# Altium footprint library MyLibrary.PcbLib: 365 footprints (part 7 of 23)
Each footprint in its own frame and in the unit in brackets; x right, y up, seen from the top. Pads: shape width x height; smd on the part's side, far side on the other; paste and mask are expansions set on the pad; w line width, h text height; cw(c..) or ccw(c..) is an arc to the next point about the centre after c.
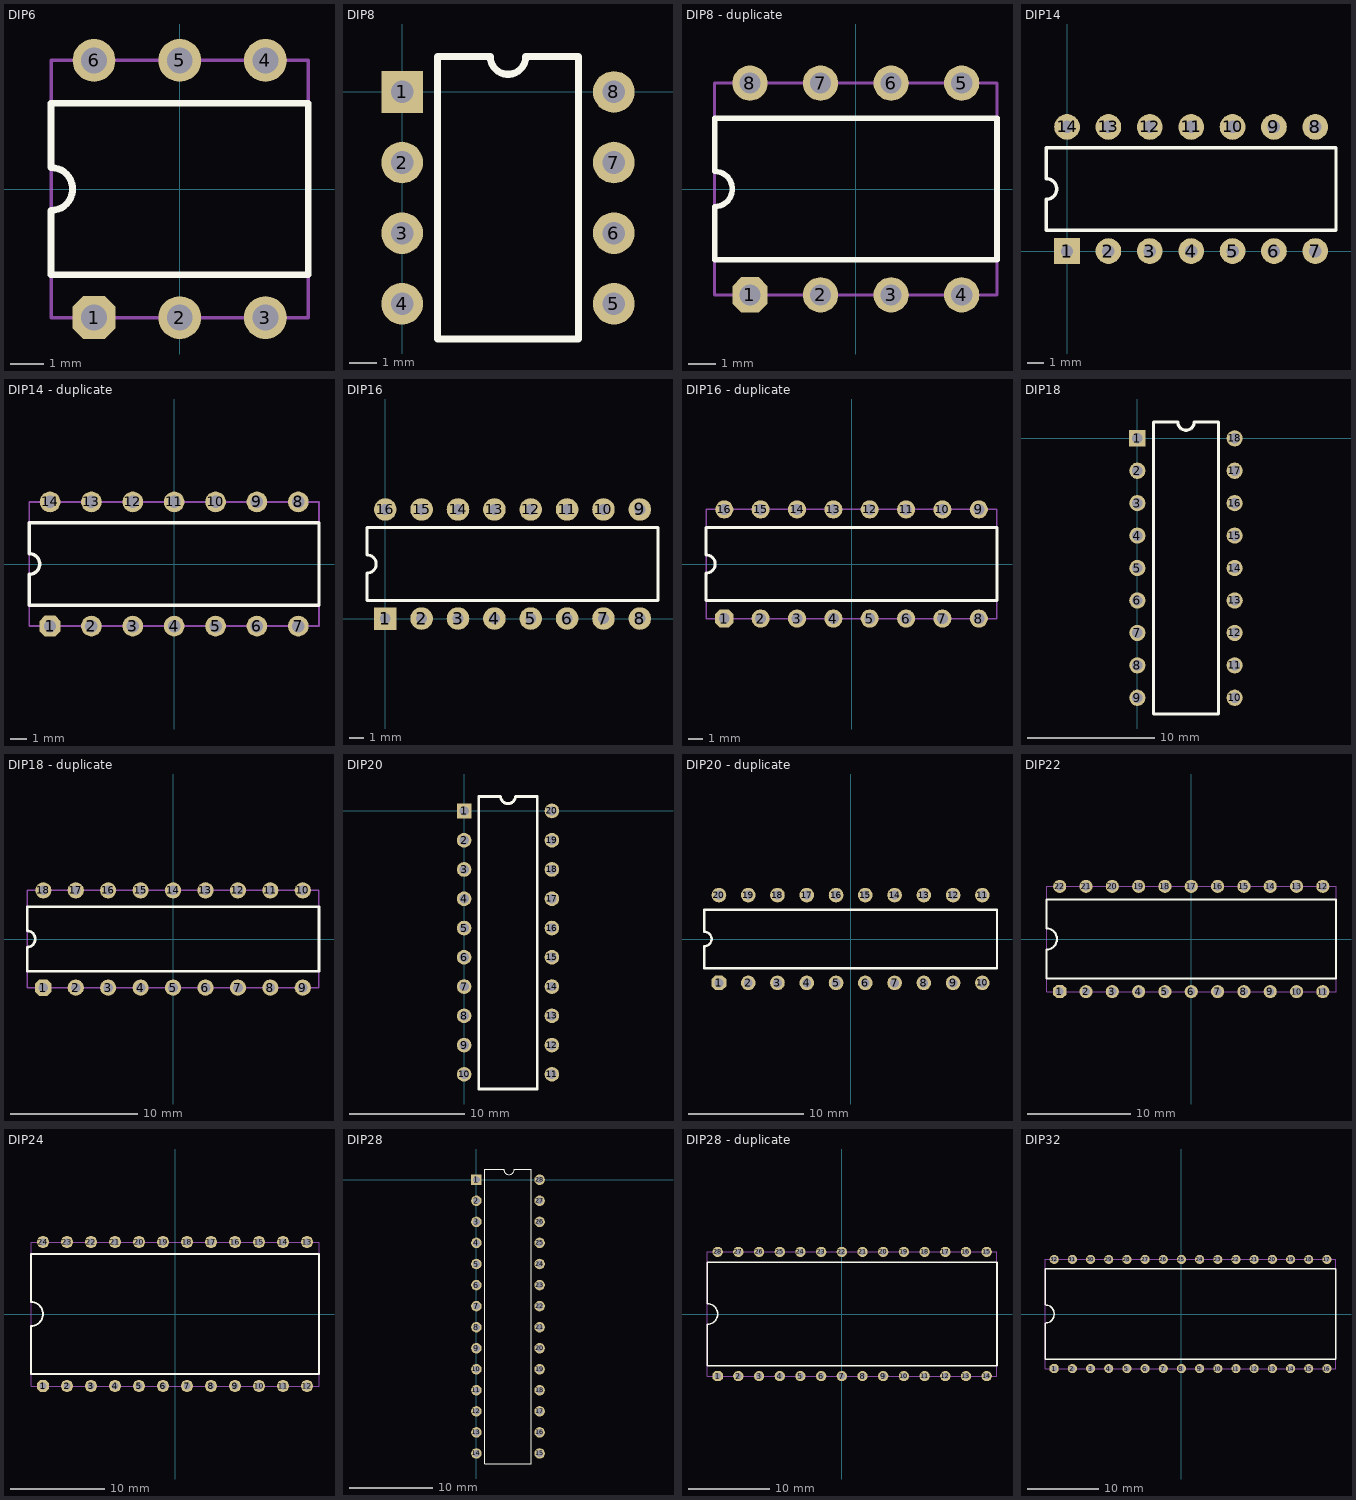
[diagram p6: the footprints below, top view; thin cyan lines are the x and y axes]

## DIP6 [mil]
pads (6):
  oct 50x50 hole 30: 1(-100,-150)
  round 50 hole 30: 2(0,-150) 3(100,-150) 4(100,150) 5(0,150) 6(-100,150)
Top Overlay:
  lines w8: -150,-100 150,-100 150,100 -150,100 -150,25 cw(c-150,0) -150,-25 -150,-100
Mechanical 1:
  lines w4: -150,-150 -150,150 150,150 150,-150 -150,-150

## DIP8 [mm]
pads (8):
  rect 1.5x1.5 hole 0.813: 1(0,0)
  round 1.5 hole 0.813: 2(0,-2.54) 3(0,-5.08) 4(0,-7.62) 5(7.62,-7.62) 6(7.62,-5.08) 7(7.62,-2.54) 8(7.62,0)
Top Overlay:
  lines w0.254: 1.27,-8.89 1.27,1.27 3.175,1.27 ccw(c3.81,1.27) 4.445,1.27 6.35,1.27 6.35,-8.89 1.27,-8.89

## DIP8 - duplicate [mil]
pads (8):
  oct 50x50 hole 30: 1(-150,-150)
  round 50 hole 30: 2(-50,-150) 3(50,-150) 4(150,-150) 5(150,150) 6(50,150) 7(-50,150) 8(-150,150)
Top Overlay:
  lines w8: -200,-100 -200,-25 ccw(c-200,0) -200,25 -200,100 200,100 200,-100 -200,-100
Mechanical 1:
  lines w4: -200,-150 -200,150 200,150 200,-150 -200,-150

## DIP14 [mil]
pads (14):
  rect 62x62 hole 30: 1(0,0)
  round 62 hole 30: 2(100,0) 3(200,0) 4(300,0) 5(400,0) 6(500,0) 7(600,0) 8(600,300) 9(500,300) 10(400,300) 11(300,300) 12(200,300) 13(100,300) 14(0,300)
Top Overlay:
  lines w8: -50,50 650,50 650,250 -50,250 -50,175 cw(c-50,150) -50,125 -50,50

## DIP14 - duplicate [mil]
pads (14):
  oct 50x50 hole 30: 1(-300,-150)
  round 50 hole 30: 2(-200,-150) 3(-100,-150) 4(0,-150) 5(100,-150) 6(200,-150) 7(300,-150) 8(300,150) 9(200,150) 10(100,150) 11(0,150) 12(-100,150) 13(-200,150) 14(-300,150)
Top Overlay:
  lines w8: -350,-100 350,-100 350,100 -350,100 -350,25 cw(c-350,0) -350,-25 -350,-100
Mechanical 1:
  lines w4: -350,-150 -350,150 350,150 350,-150 -350,-150

## DIP16 [mil]
pads (16):
  rect 62x62 hole 30: 1(0,0)
  round 62 hole 30: 2(100,0) 3(200,0) 4(300,0) 5(400,0) 6(500,0) 7(600,0) 8(700,0) 9(700,300) 10(600,300) 11(500,300) 12(400,300) 13(300,300) 14(200,300) 15(100,300) 16(0,300)
Top Overlay:
  lines w8: -50,50 750,50 750,250 -50,250 -50,175 cw(c-50,150) -50,125 -50,50

## DIP16 - duplicate [mil]
pads (16):
  oct 50x50 hole 30: 1(-350,-150)
  round 50 hole 30: 2(-250,-150) 3(-150,-150) 4(-50,-150) 5(50,-150) 6(150,-150) 7(250,-150) 8(350,-150) 9(350,150) 10(250,150) 11(150,150) 12(50,150) 13(-50,150) 14(-150,150) 15(-250,150) 16(-350,150)
Top Overlay:
  lines w8: -400,-100 400,-100 400,100 -400,100 -400,25 cw(c-400,0) -400,-25 -400,-100
Mechanical 1:
  lines w4: -400,-150 400,-150 400,150 -400,150 -400,-150

## DIP18 [mil]
pads (18):
  rect 50x50 hole 32: 1(0,0)
  round 50 hole 32: 2(0,-100) 3(0,-200) 4(0,-300) 5(0,-400) 6(0,-500) 7(0,-600) 8(0,-700) 9(0,-800) 10(300,-800) 11(300,-700) 12(300,-600) 13(300,-500) 14(300,-400) 15(300,-300) 16(300,-200) 17(300,-100) 18(300,0)
Top Overlay:
  lines w10: 50,-850 50,50 125,50 ccw(c150,50) 175,50 250,50 250,-850 50,-850

## DIP18 - duplicate [mil]
pads (18):
  oct 50x50 hole 30: 1(-400,-150)
  round 50 hole 30: 2(-300,-150) 3(-200,-150) 4(-100,-150) 5(0,-150) 6(100,-150) 7(200,-150) 8(300,-150) 9(400,-150) 10(400,150) 11(300,150) 12(200,150) 13(100,150) 14(0,150) 15(-100,150) 16(-200,150) 17(-300,150) 18(-400,150)
Top Overlay:
  lines w8: -450,-100 450,-100 450,100 -450,100 -450,25 cw(c-450,0) -450,-25 -450,-100
Mechanical 1:
  lines w4: -450,-150 -450,150 450,150 450,-150 -450,-150

## DIP20 [mil]
pads (20):
  rect 50x50 hole 32: 1(0,0)
  round 50 hole 32: 2(0,-100) 3(0,-200) 4(0,-300) 5(0,-400) 6(0,-500) 7(0,-600) 8(0,-700) 9(0,-800) 10(0,-900) 11(300,-900) 12(300,-800) 13(300,-700) 14(300,-600) 15(300,-500) 16(300,-400) 17(300,-300) 18(300,-200) 19(300,-100) 20(300,0)
Top Overlay:
  lines w10: 50,-950 250,-950 250,50 175,50 cw(c150,50) 125,50 50,50 50,-950

## DIP20 - duplicate [mil]
pads (20):
  oct 50x50 hole 30: 1(-450,-150)
  round 50 hole 30: 2(-350,-150) 3(-250,-150) 4(-150,-150) 5(-50,-150) 6(50,-150) 7(150,-150) 8(250,-150) 9(350,-150) 10(450,-150) 11(450,150) 12(350,150) 13(250,150) 14(150,150) 15(50,150) 16(-50,150) 17(-150,150) 18(-250,150) 19(-350,150) 20(-450,150)
Top Overlay:
  lines w8: -500,-100 500,-100 500,100 -500,100 -500,25 cw(c-500,0) -500,-25 -500,-100

## DIP22 [mil]
pads (22):
  oct 50x50 hole 30: 1(-500,-200)
  round 50 hole 30: 2(-400,-200) 3(-300,-200) 4(-200,-200) 5(-100,-200) 6(0,-200) 7(100,-200) 8(200,-200) 9(300,-200) 10(400,-200) 11(500,-200) 12(500,200) 13(400,200) 14(300,200) 15(200,200) 16(100,200) 17(0,200) 18(-100,200) 19(-200,200) 20(-300,200) 21(-400,200) 22(-500,200)
Top Overlay:
  lines w8: -550,-150 550,-150 550,150 -550,150 -550,40 cw(c-550,0) -550,-40 -550,-150
Mechanical 1:
  lines w4: -550,-200 550,-200 550,200 -550,200 -550,-200

## DIP24 [mil]
pads (24):
  oct 50x50 hole 30: 1(-550,-300)
  round 50 hole 30: 2(-450,-300) 3(-350,-300) 4(-250,-300) 5(-150,-300) 6(-50,-300) 7(50,-300) 8(150,-300) 9(250,-300) 10(350,-300) 11(450,-300) 12(550,-300) 13(550,300) 14(450,300) 15(350,300) 16(250,300) 17(150,300) 18(50,300) 19(-50,300) 20(-150,300) 21(-250,300) 22(-350,300) 23(-450,300) 24(-550,300)
Top Overlay:
  lines w8: -600,-250 600,-250 600,250 -600,250 -600,50 cw(c-600,0) -600,-50 -600,-250
Mechanical 1:
  lines w4: -600,-300 600,-300 600,300 -600,300 -600,-300

## DIP28 [mil]
pads (28):
  rect 50x50 hole 32: 1(0,0)
  round 50 hole 32: 2(0,-100) 3(0,-200) 4(0,-300) 5(0,-400) 6(0,-500) 7(0,-600) 8(0,-700) 9(0,-800) 10(0,-900) 11(0,-1000) 12(0,-1100) 13(0,-1200) 14(0,-1300) 15(300,-1300) 16(300,-1200) 17(300,-1100) 18(300,-1000) 19(300,-900) 20(300,-800) 21(300,-700) 22(300,-600) 23(300,-500) 24(300,-400) 25(300,-300) 26(300,-200) 27(300,-100) 28(300,0)
Top Overlay:
  lines w4: 40,-1350 40,50 130,50 ccw(c155,50) 180,50 260,50 260,-1350 40,-1350

## DIP28 - duplicate [mil]
pads (28):
  oct 50x50 hole 30: 1(-600,-300)
  round 50 hole 30: 2(-500,-300) 3(-400,-300) 4(-300,-300) 5(-200,-300) 6(-100,-300) 7(0,-300) 8(100,-300) 9(200,-300) 10(300,-300) 11(400,-300) 12(500,-300) 13(600,-300) 14(700,-300) 15(700,300) 16(600,300) 17(500,300) 18(400,300) 19(300,300) 20(200,300) 21(100,300) 22(0,300) 23(-100,300) 24(-200,300) 25(-300,300) 26(-400,300) 27(-500,300) 28(-600,300)
Top Overlay:
  lines w8: -650,-250 -650,-50 ccw(c-650,0) -650,50 -650,250 750,250 750,-250 -650,-250
Mechanical 1:
  lines w4: -650,-300 -650,300 750,300 750,-300 -650,-300

## DIP32 [mil]
pads (32):
  oct 50x50 hole 30: 1(-700,-300)
  round 50 hole 30: 2(-600,-300) 3(-500,-300) 4(-400,-300) 5(-300,-300) 6(-200,-300) 7(-100,-300) 8(0,-300) 9(100,-300) 10(200,-300) 11(300,-300) 12(400,-300) 13(500,-300) 14(600,-300) 15(700,-300) 16(800,-300) 17(800,300) 18(700,300) 19(600,300) 20(500,300) 21(400,300) 22(300,300) 23(200,300) 24(100,300) 25(0,300) 26(-100,300) 27(-200,300) 28(-300,300) 29(-400,300) 30(-500,300) 31(-600,300) 32(-700,300)
Top Overlay:
  lines w8: -750,-250 850,-250 850,250 -750,250 -750,50 cw(c-750,0) -750,-50 -750,-250
Mechanical 1:
  lines w4: -750,-300 850,-300 850,300 -750,300 -750,-300